# Altium footprint library BUK9832-55A115.PcbLib: 1 footprints
Each footprint in its own frame and in the unit in brackets; x right, y up, seen from the top. Pads: shape width x height; smd on the part's side, far side on the other; paste and mask are expansions set on the pad; w line width, h text height; cw(c..) or ccw(c..) is an arc to the next point about the centre after c.
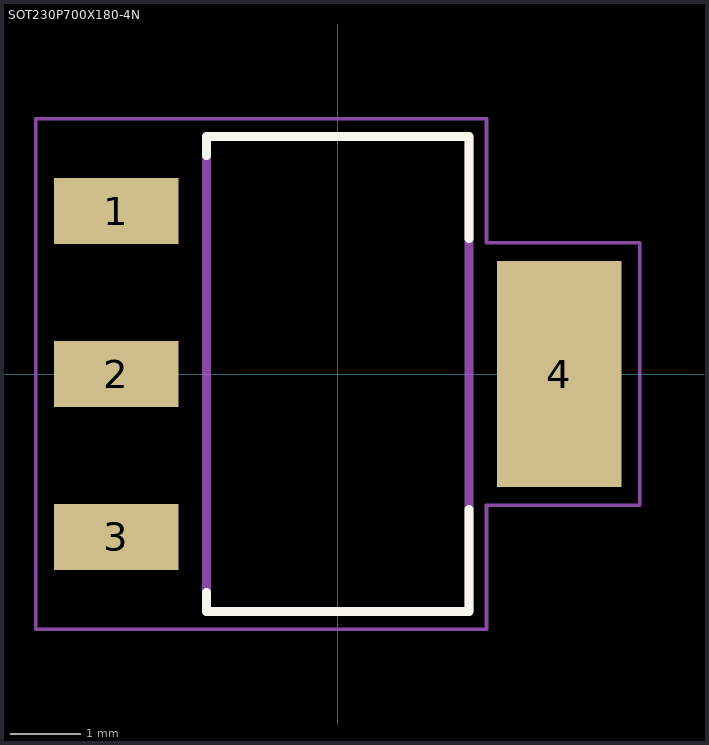
[diagram p0: the footprint, top view; thin cyan lines are the x and y axes]

## SOT230P700X180-4N [mm]
pads (4):
  rect 1.76x0.93 smd: 1(-3.125,2.3) 2(-3.125,0) 3(-3.125,-2.3)
  rect 1.76x3.19 smd: 4(3.125,0)
Top Overlay:
  lines w0.127: -1.85,-3.08 -1.85,-3.35 1.85,-3.35 1.85,-1.91 ; -1.85,3.08 -1.85,3.35 1.85,3.35 1.85,1.91
Mechanical 4:
  lines w0.127: -1.85,-3.35 1.85,-3.35 ; -1.85,-3.35 -1.85,3.35 ; -1.85,-3.35 1.85,-3.35 ; -1.85,-3.35 -1.85,3.35 ; -1.85,3.35 1.85,3.35 ; -1.85,3.35 1.85,3.35 ; 1.85,-3.35 1.85,3.35 ; 1.85,-3.35 1.85,3.35
Mechanical 16:
  lines w0.05: -4.26,-3.6 -4.26,3.6 2.1,3.6 2.1,1.85 4.26,1.85 4.26,-1.85 2.1,-1.85 2.1,-3.6 -4.26,-3.6
3D body "SOT223-3.step": height 1.6, standoff 0, extent -3.574,-3.25 3.5,3.25